# EAGLE library part LPC935 (library LPC935)
MICROCONTROLLER LPC900 Serie LPC932 MOUSER Best.Nr.:http://de.mouser.com/ProductDetail/NXP-Semiconductors/P89LPC932A1FDH512/?qs=sGAEpiMZZMvKM5ialpXrmlFjCME9diRL FarnellHersteller: NXP Farnell Best.Nr.: 2314884 Herst.Bez.: P89LPC9321FDH,512
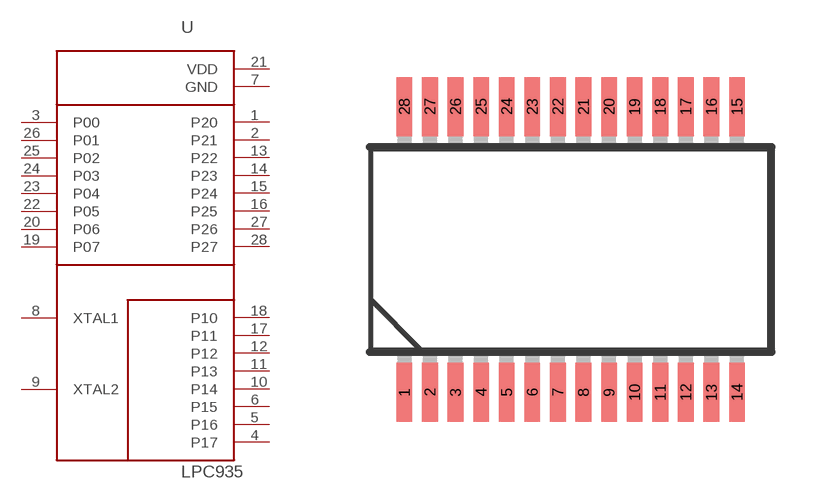
[diagram p0: symbol with the pads of SSOP28; footprint SSOP28]

Designator prefix -

## LPC935  [SSOP28]
1  P20
2  P21
3  P00
4  P17
5  P16
6  P15
7  GND
8  XTAL1
9  XTAL2
10  P14
11  P13
12  P12
13  P22
14  P23
15  P24
16  P25
17  P11
18  P10
19  P07
20  P06
21  VDD
22  P05
23  P04
24  P03
25  P02
26  P01
27  P26
28  P27

## Footprint SSOP28 (pad centres in mm)
Shrink Small Outline Package package type SS
smd 0.4 x 1.5: 1 -4.225,-3.625; 2 -3.575,-3.625; 3 -2.925,-3.625; 4 -2.275,-3.625; 5 -1.625,-3.625; 6 -0.975,-3.625; 7 -0.325,-3.625; 8 0.325,-3.625; 9 0.975,-3.625; 10 1.625,-3.625; 11 2.275,-3.625; 12 2.925,-3.625; 13 3.575,-3.625; 14 4.225,-3.625; 15 4.225,3.625; 16 3.575,3.625; 17 2.925,3.625; 18 2.275,3.625; 19 1.625,3.625; 20 0.975,3.625; 21 0.325,3.625; 22 -0.325,3.625; 23 -0.975,3.625; 24 -1.625,3.625; 25 -2.275,3.625; 26 -2.925,3.625; 27 -3.575,3.625; 28 -4.225,3.625